# Altium footprint library TYPE-C-31-M-12.PcbLib: 1 footprints
Each footprint in its own frame and in the unit in brackets; x right, y up, seen from the top. Pads: shape width x height; smd on the part's side, far side on the other; paste and mask are expansions set on the pad; w line width, h text height; cw(c..) or ccw(c..) is an arc to the next point about the centre after c.
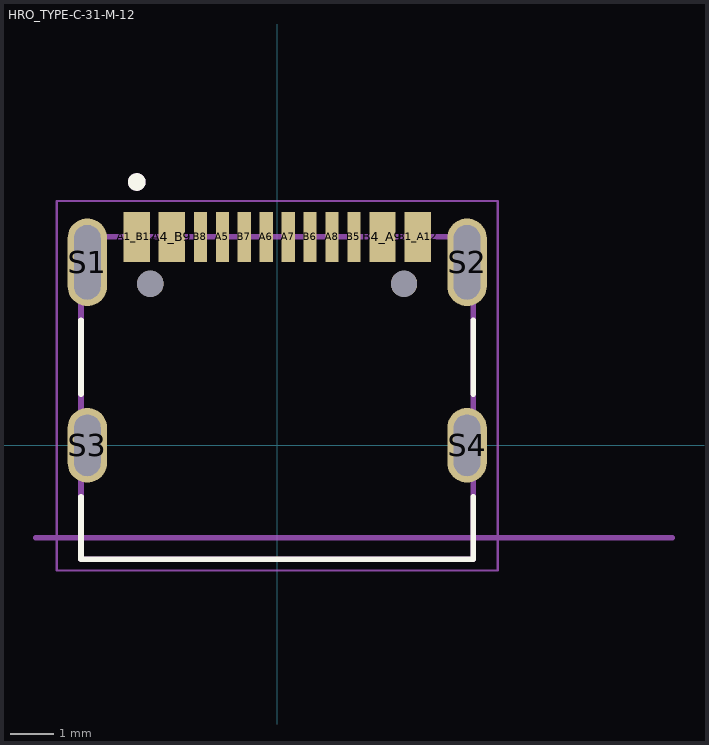
[diagram p0: the footprint, top view; thin cyan lines are the x and y axes]

## HRO_TYPE-C-31-M-12 [mm]
pads (18):
  rect 0.6x1.14 smd mask+0.05: A1_B12(-3.2,4.75) A4_B9(-2.4,4.75) B1_A12(3.2,4.75) B4_A9(2.4,4.75)
  rect 0.3x1.14 smd mask+0.05: A5(-1.25,4.75) A6(-0.25,4.75) A7(0.25,4.75) A8(1.25,4.75) B5(1.75,4.75) B6(0.75,4.75) B7(-0.75,4.75) B8(-1.75,4.75)
  oval 0.9x2 hole 0.6 slot 1.7 at 90 deg: S1(-4.325,4.17) S2(4.325,4.17)
  oval 0.9x1.7 hole 0.6 slot 1.4 at 90 deg: S3(-4.325,0) S4(4.325,0)
  round 0.6 hole 0.6 unplated: ""(-2.89,3.68) ""(2.89,3.68)
Top Overlay:
  circle w0.2: c-3.2,6 r0.1
  lines w0.127: -4.47,-1.17 -4.47,-2.6 4.47,-2.6 4.47,-1.17 ; -4.47,1.17 -4.47,2.85 ; 4.47,1.17 4.47,2.85
Mechanical 13:
  circle w0.2: c-3.2,6 r0.1
  lines w0.127: -5.5,-2.11 9,-2.11 ; -4.47,-2.6 -4.47,4.75 4.47,4.75 4.47,-2.6 -4.47,-2.6
  text "PCB EDGE" at 5.2,-1.9 h0.61
Mechanical 15:
  lines w0.05: -5.025,-2.85 5.025,-2.85 5.025,5.57 -5.025,5.57 -5.025,-2.85
3D body "step_temp.STEP": height 3.31, standoff -0.99, extent -4.47,-2.6 4.47,5.305